# EAGLE library part ST1S03 (library IC)
ST Micro ST1s03 1.5A, 1.5MHz adjustable Step Down Switching Regulator
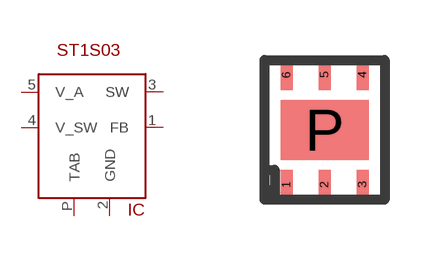
[diagram p112: symbol with the pads of DFN6; footprint DFN6]

Designator prefix IC

## ST1S03PMR  [DFN6]
1  FB  pwr
2  GND  pwr
3  SW  pwr
4  V_SW  pwr
5  V_A  pwr
P  TAB  pwr

## Footprint DFN6 (pad centres in mm)
DFN6 package (ST Micro)
smd 0.3 x 0.75: 1 -0.95,-1.375; 2 0,-1.375; 3 0.95,-1.375; 4 0.95,1.375; 5 0,1.375; 6 -0.95,1.375
smd 2.2 x 1.5: P 0,0